# Altium integrated library M7.IntLib: 1 symbol
Pins are listed as number, name and electrical type; pins without a type are passive.

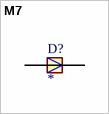
[diagram p0: symbol M7]

## M7
designator D?
Diode, SMA, 1000V, 1A, 150Â°C; MF: Diotec Semiconductor; MP: M7; SnapEDA_Link: https://www.snapeda.com/parts/M7/Diotec/view-part/?ref=snap; Package: DO-214AC Diotec; Value: *; Check_prices: https://www.snapeda.com/parts/M7/Diotec/view-part/?ref=eda
footprint DIOM505270X240
pins: A, C